# Altium footprint library 19inch.PCBLIB: 26 footprints (part 3 of 3)
Each footprint in its own frame and in the unit in brackets; x right, y up, seen from the top. Pads: shape width x height; smd on the part's side, far side on the other; paste and mask are expansions set on the pad; w line width, h text height; cw(c..) or ccw(c..) is an arc to the next point about the centre after c.
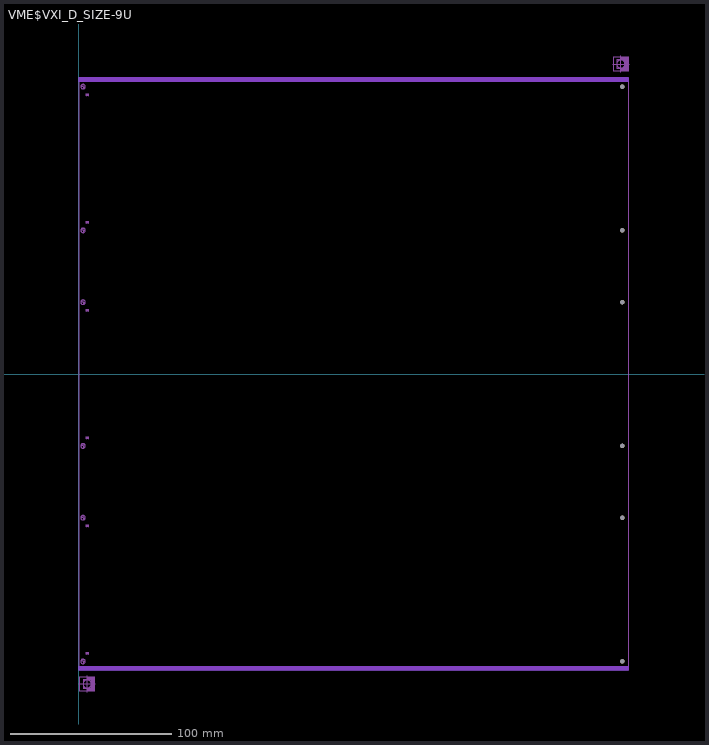
[diagram p2: the footprint, top view; thin cyan lines are the x and y axes]

## VME$VXI_D_SIZE-9U [mil]
pads (6):
  round 106.3 hole 106.3 unplated: MH1(13236.77,7000) MH2(13236.77,3500) MH3(13236.77,1750) MH4(13236.77,-1750) MH5(13236.77,-3500) MH6(13236.77,-7000)
Top keep-out:
  region: 13385.59,7218.5 13385.59,7120.08 -0.24,7120.08 -0.24,7218.5
  region: 13385.59,-7120.08 13385.59,-7218.5 -0.24,-7218.5 -0.24,-7120.08
Bottom keep-out:
  region: 13385.59,-7120.08 13385.59,-7218.5 -0.24,-7218.5 -0.24,-7120.08
  region: 13385.59,7218.5 13385.59,7120.08 -0.24,7120.08 -0.24,7218.5
Dimension:
  lines w0: 99.76,-3554.57 99.76,-3500 155.43,-3500 ; 99.76,6945.43 99.76,7000 155.43,7000 ; -0.24,-7218.5 13385.59,-7218.5 13385.59,7218.5 -0.24,7218.5 -0.24,-7218.5
Reference:
  circle w0.04: c99.76,1750 r55
  circle w0.04: c99.76,3500 r55
  circle w0.04: c99.76,7000 r55
  circle w0.04: c99.76,-1750 r55
  circle w0.04: c99.76,-7000 r55
  circle w0.04: c99.76,-3500 r55
  circle w10: c200,-7549 r100
  circle w10: c13200,7551 r100
  region: 200,-7724 200,-7649 375,-7649 375,-7724
  region: 300,-7649 300,-7449 375,-7449 375,-7649
  region: 200,-7449 200,-7374 375,-7374 375,-7449
  region: 13200,7376 13200,7451 13375,7451 13375,7376
  region: 13300,7451 13300,7651 13375,7651 13375,7451
  region: 13200,7651 13200,7726 13375,7726 13375,7651
  lines w0: 42.79,-1750 99.76,-1750 ; 42.79,1750 99.76,1750 ; 44.76,-7000 99.76,-7000 ; 44.76,-3500 99.76,-3500 99.76,-3444.99 ; 44.76,3500 99.76,3500 ; 44.76,7000 99.76,7000 99.76,7055.01 ; 99.76,-7054.57 99.76,-7000 ; 99.76,-6944.99 99.76,-7000 ; 99.76,-1806.54 99.76,-1750 ; 99.76,-1692.36 99.76,-1750 ; 99.76,1693.46 99.76,1750 ; 99.76,1806.98 99.76,1750 ; 99.76,3445.43 99.76,3500 ; 99.76,3555.01 99.76,3500 ; 155.43,-7000 99.76,-7000 ; 155.43,3500 99.76,3500 ; 157.18,-1750 99.76,-1750 ; 157.4,1750 99.76,1750 ; 175,-6825 225,-6775 ; 175,-6825 175,-6775 ; 175,-6825 225,-6825 ; 175,-6775 225,-6825 ; 175,-6775 225,-6775 ; 175,-3725 225,-3675 ; 175,-3725 175,-3675 ; 175,-3725 225,-3725 ; 175,-3675 225,-3725 ; 175,-3675 225,-3675 ; 175,-1575 225,-1525 ; 175,-1575 175,-1525 ; 175,-1575 225,-1575 ; 175,-1525 225,-1575 ; 175,-1525 225,-1525 ; 175,1525 225,1575 ; 175,1525 225,1525 ; 175,1525 175,1575 ; 175,1575 225,1525 ; 175,1575 225,1575 ; 175,3675 225,3725 ; 175,3675 175,3725 ; 175,3675 225,3675 ; 175,3725 225,3675 ; 175,3725 225,3725 ; 175,6775 225,6825 ; 175,6775 175,6825 ; 175,6775 225,6775 ; 175,6825 225,6775 ; 175,6825 225,6825 ; 225,-6825 225,-6775 ; 225,-3725 225,-3675 ; 225,-1575 225,-1525 ; 225,1525 225,1575 ; 225,3675 225,3725 ; 225,6775 225,6825
  lines w4: 0,-7549 25,-7549 400,-7549 ; 200,-7749 200,-7349 ; 13000,7551 13025,7551 13400,7551 ; 13200,7351 13200,7751
  lines w10: 25,-7724 375,-7724 375,-7374 25,-7374 25,-7549 25,-7724 ; 100,-7649 100,-7449 300,-7449 300,-7649 100,-7649 ; 13025,7376 13375,7376 13375,7726 13025,7726 13025,7551 13025,7376 ; 13100,7451 13100,7651 13300,7651 13300,7451 13100,7451